# EAGLE library part TA12-22SYKWA (library Z80 clock)
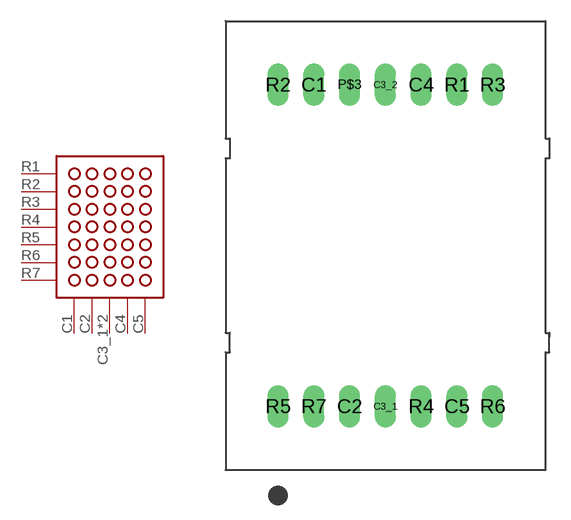
[diagram p0: symbol with the pads of TA12-22SYKWA; footprint TA12-22SYKWA]

Designator prefix -

## TA12-22SYKWA  [TA12-22SYKWA]
C1  C1  in
C2  C2  in
C3_1  C3  in
C3_2  C3  in
C4  C4  in
C5  C5  in
R1  R1  out
R2  R2  out
R3  R3  out
R4  R4  out
R5  R5  out
R6  R6  out
R7  R7  out

## Footprint TA12-22SYKWA (pad centres in mm)
drill 1 long: C1 -5.08,11.43; C2 -2.54,-11.43; C3_1 0,-11.43; C3_2 0,11.43; C4 2.54,11.43; C5 5.08,-11.43; P$3 -2.54,11.43; R1 5.08,11.43; R2 -7.62,11.43; R3 7.62,11.43; R4 2.54,-11.43; R5 -7.62,-11.43; R6 7.62,-11.43; R7 -5.08,-11.43